# EAGLE library part CDCLVC1104 (library ic-TI)
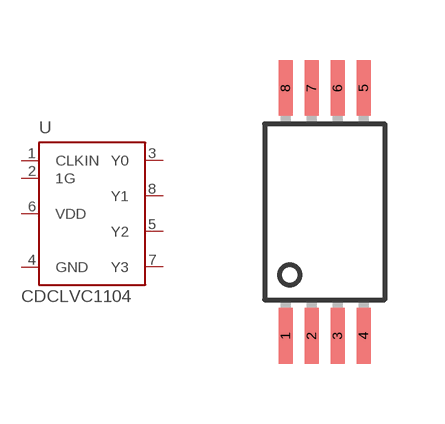
[diagram p0: symbol with the pads of TSSOP8; footprint TSSOP8]

Designator prefix U

## CDCLVC1104  [TSSOP8]
1  CLKIN  in
2  1G  in
3  Y0  out
4  GND  in
5  Y2  out
6  VDD  in
7  Y3  out
8  Y1  out

## Footprint TSSOP8 (pad centres in mm)
smd 0.35 x 1.4: 1 -0.975,-3.1; 2 -0.325,-3.1; 3 0.325,-3.1; 4 0.975,-3.1; 5 0.975,3.1; 6 0.325,3.1; 7 -0.325,3.1; 8 -0.975,3.1